# Altium schematic symbol library SMD Ceramic Capacitors.SchLib: 6 symbols
Pins are listed as number, name and electrical type; pins without a type are passive.

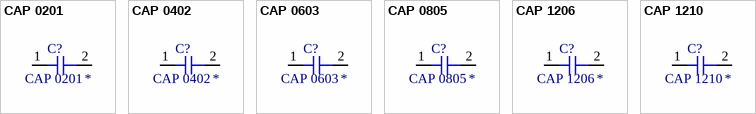
[diagram p0: symbols CAP 0201 to CAP 1210]

## CAP 0201
designator C?
PartNumber: *; Tolerance: *; Value (F): *
footprint CAP 0201
pins: 1, 2

## CAP 0402
designator C?
PartNumber: *; Tolerance: *; Value (F): *
footprint CAP 0402
pins: 1, 2

## CAP 0603
designator C?
PartNumber: *; Tolerance: *; Value (F): *
footprint CAP 0603
pins: 1, 2

## CAP 0805
designator C?
PartNumber: *; Tolerance: *; Value (F): *
footprint CAP 0805
pins: 1, 2

## CAP 1206
designator C?
PartNumber: *; Tolerance: *; Value (F): *
footprint CAP 1206
pins: 1, 2

## CAP 1210
designator C?
PartNumber: *; Tolerance: *; Value (F): *
footprint CAP 1210
pins: 1, 2